# EAGLE library part USB-TTL (library mylib)
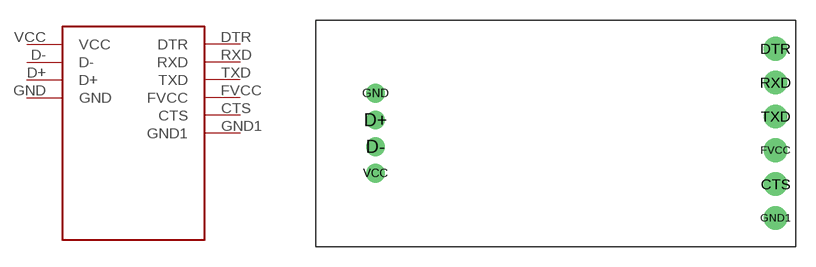
[diagram p3: symbol with the pads of USB_TTL; footprint USB_TTL]

Designator prefix -

## USB-TTL  [USB_TTL]
CTS  CTS
D+  D+
D-  D-
DTR  DTR
FVCC  FVCC
GND  GND
GND1  GND1
RXD  RXD
TXD  TXD
VCC  VCC

## Footprint USB_TTL (pad centres in mm)
drill 1 pad 1.778: CTS 34.5,4.69; DTR 34.5,14.85; FVCC 34.5,7.23; GND1 34.5,2.15; RXD 34.5,12.31; TXD 34.5,9.77
drill 0.7 pad 1.422: D+ 4.5,9.5; D- 4.5,7.5; GND 4.5,11.5; VCC 4.5,5.5